# Altium footprint library MT_Chip.PcbLib: 38 footprints (part 3 of 3)
Each footprint in its own frame and in the unit in brackets; x right, y up, seen from the top. Pads: shape width x height; smd on the part's side, far side on the other; paste and mask are expansions set on the pad; w line width, h text height; cw(c..) or ccw(c..) is an arc to the next point about the centre after c.
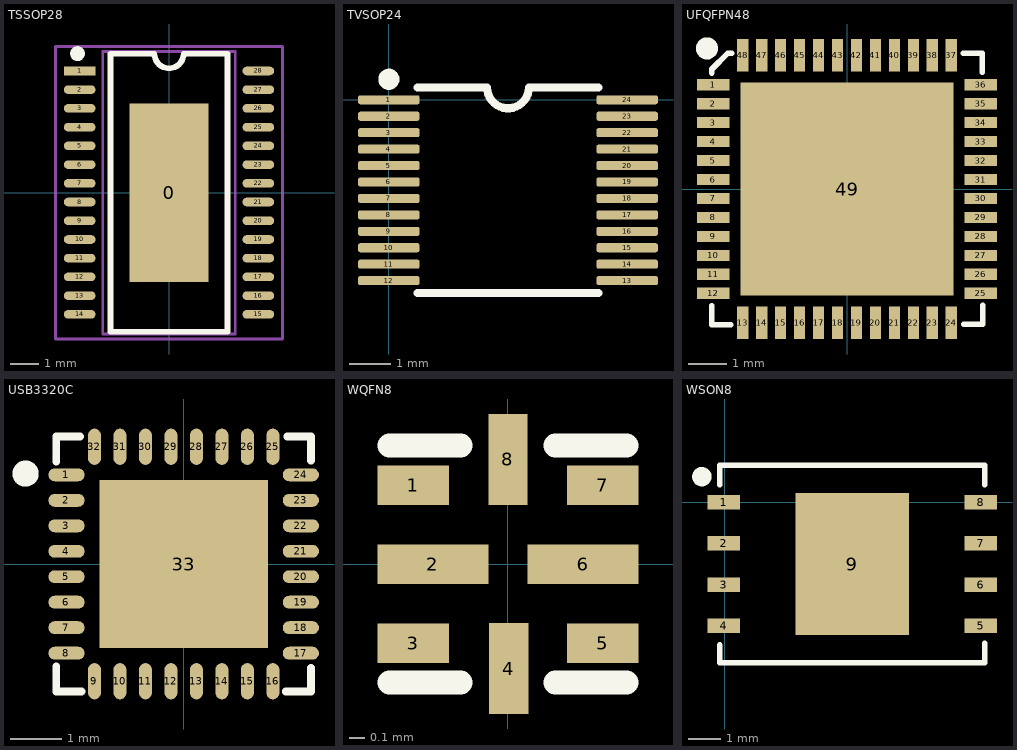
[diagram p2: the footprints below, top view; thin cyan lines are the x and y axes]

## TSSOP28 [mm]
pads (29):
  rect 2.75x6.2 smd: 0(0,0)
  rect 1.1x0.3 smd: 1(-3.1,4.225)
  oval 1.1x0.3 smd: 2(-3.1,3.575) 3(-3.1,2.925) 4(-3.1,2.275) 5(-3.1,1.625) 6(-3.1,0.975) 7(-3.1,0.325) 8(-3.1,-0.325) 9(-3.1,-0.975) 10(-3.1,-1.625) 11(-3.1,-2.275) 12(-3.1,-2.925) 13(-3.1,-3.575) 14(-3.1,-4.225) 15(3.1,-4.225) 16(3.1,-3.575) 17(3.1,-2.925) 18(3.1,-2.275) 19(3.1,-1.625) 20(3.1,-0.975) 21(3.1,-0.325) 22(3.1,0.325) 23(3.1,0.975) 24(3.1,1.625) 25(3.1,2.275) 26(3.1,2.925) 27(3.1,3.575) 28(3.1,4.225)
Top Overlay:
  circle w0.254: c-3.175,4.826 r0.13
  lines w0.2: -2.032,-4.826 -2.032,4.826 -0.508,4.826 ccw(c0,4.826) 0.508,4.826 2.032,4.826 2.032,-4.826 -2.032,-4.826
Mechanical 13:
  lines w0.1: -2.3,-4.9 2.3,-4.9 2.3,4.9 -2.3,4.9 -2.3,-4.9
Mechanical 15:
  circle w0.05: c0,0 r0.35
  lines w0.05: -0.5,0 0.5,0 ; 0,-0.5 0,0.5
  lines w0.1: -3.937,-5.08 3.937,-5.08 3.937,5.08 -3.937,5.08 -3.937,-5.08
3D body "TSSOP28.STEP": height 1.03, standoff -0.02, extent -3.202,-4.9 3.202,4.9

## TVSOP24 [mm]
pads (24):
  rrect50% 1.5x0.22 smd: 1(0,0) 2(0,-0.4) 3(0,-0.8) 4(0,-1.2) 5(0,-1.6) 6(0,-2) 7(0,-2.4) 8(0,-2.8) 9(0,-3.2) 10(0,-3.6) 11(0,-4) 12(0,-4.4) 13(5.8,-4.4) 14(5.8,-4) 15(5.8,-3.6) 16(5.8,-3.2) 17(5.8,-2.8) 18(5.8,-2.4) 19(5.8,-2) 20(5.8,-1.6) 21(5.8,-1.2) 22(5.8,-0.8) 23(5.8,-0.4) 24(5.8,0)
Top Overlay:
  circle w0.254: c0,0.5 r0.13
  lines w0.2: 0.7,-4.7 2.9,-4.7 5.1,-4.7 ; 0.7,0.3 2.375,0.3 ; 2.392,0.301 ccw(c2.9,0.301) 3.408,0.301 ; 3.425,0.3 5.1,0.3
3D body: height 1.2, standoff 0.03, extent 0.7,-4.7 5.1,0.3

## UFQFPN48 [mm]
pads (49):
  rect 0.85x0.3 smd: 1(-3.525,2.75) 2(-3.525,2.25) 3(-3.525,1.75) 4(-3.525,1.25) 5(-3.525,0.75) 6(-3.525,0.25) 7(-3.525,-0.25) 8(-3.525,-0.75) 9(-3.525,-1.25) 10(-3.525,-1.75) 11(-3.525,-2.25) 12(-3.525,-2.75) 25(3.525,-2.75) 26(3.525,-2.25) 27(3.525,-1.75) 28(3.525,-1.25) 29(3.525,-0.75) 30(3.525,-0.25) 31(3.525,0.25) 32(3.525,0.75) 33(3.525,1.25) 34(3.525,1.75) 35(3.525,2.25) 36(3.525,2.75)
  rect 0.3x0.85 smd: 13(-2.75,-3.525) 14(-2.25,-3.525) 15(-1.75,-3.525) 16(-1.25,-3.525) 17(-0.75,-3.525) 18(-0.25,-3.525) 19(0.25,-3.525) 20(0.75,-3.525) 21(1.25,-3.525) 22(1.75,-3.525) 23(2.25,-3.525) 24(2.75,-3.525) 37(2.75,3.525) 38(2.25,3.525) 39(1.75,3.525) 40(1.25,3.525) 41(0.75,3.525) 42(0.25,3.525) 43(-0.25,3.525) 44(-0.75,3.525) 45(-1.25,3.525) 46(-1.75,3.525) 47(-2.25,3.525) 48(-2.75,3.525)
  rect 5.6x5.6 smd: 49(0,0)
Top Overlay:
  circle w0.3: c-3.687,3.703 r0.14
  lines w0.15: -3.562,-3.072 -3.562,-3.572 -3.062,-3.572 ; -3.562,3.053 -3.562,3.153 -3.137,3.578 -3.037,3.578 ; 3.062,3.572 3.562,3.572 3.562,3.072 ; 3.072,-3.562 3.572,-3.562 3.572,-3.062
3D body: height 0.55, standoff 0, extent -3.575,-3.575 3.575,3.575

## USB3320C [mil]
pads (33):
  oval 28x10 smd: 1(-90.55,68.9) 2(-90.55,49.21) 3(-90.55,29.53) 4(-90.55,9.84) 5(-90.55,-9.84) 6(-90.55,-29.53) 7(-90.55,-49.21) 8(-90.55,-68.9) 17(90.55,-68.9) 18(90.55,-49.21) 19(90.55,-29.53) 20(90.55,-9.84) 21(90.55,9.84) 22(90.55,29.53) 23(90.55,49.21) 24(90.55,68.9)
  oval 10x28 smd: 9(-68.9,-90.55) 10(-49.21,-90.55) 11(-29.53,-90.55) 12(-9.84,-90.55) 13(9.84,-90.55) 14(29.53,-90.55) 15(49.21,-90.55) 16(68.9,-90.55) 25(68.9,90.55) 26(49.21,90.55) 27(29.53,90.55) 28(9.84,90.55) 29(-9.84,90.55) 30(-29.53,90.55) 31(-49.21,90.55) 32(-68.9,90.55)
  rect 129.93x129.93 smd: 33(0,0)
Top Overlay:
  circle w10: c-122.13,69.85 r5.1
  lines w6: -98.43,-79.29 -98.43,-98.43 -78.93,-98.43 ; -98.43,79.2 -98.43,98.43 -80.03,98.43 ; 78.83,-98.43 98.43,-98.43 98.43,-80.39 ; 79.93,98.43 98.43,98.43 98.43,79.94

## WQFN8 [mm]
pads (8):
  rect 0.45x0.25 smd: 1(-0.6,0.5) 3(-0.6,-0.5) 5(0.6,-0.5) 7(0.6,0.5)
  rect 0.7x0.25 smd: 2(-0.475,0) 6(0.475,0)
  rect 0.25x0.575 smd: 4(0.004,-0.662) 8(0,0.663)
Top Overlay:
  lines w0.15: -0.75,-0.75 -0.3,-0.75 ; -0.75,0.75 -0.3,0.75 ; 0.3,-0.75 0.75,-0.75 ; 0.3,0.75 0.75,0.75
3D body: height 0.8, standoff 0, extent -0.75,-0.75 0.75,0.75

## WSON8 [mm]
pads (9):
  rect 1x0.45 smd: 1(-0.038,0) 2(-0.038,-1.27) 3(-0.038,-2.54) 4(-0.038,-3.81) 5(7.912,-3.81) 6(7.912,-2.54) 7(7.912,-1.27) 8(7.912,0)
  rect 3.5x4.4 smd: 9(3.937,-1.905)
Top Overlay:
  circle w0.3: c-0.713,0.795 r0.15
  lines w0.178: -0.163,-4.409 -0.163,-4.955 8.037,-4.955 8.037,-4.354 ; -0.163,0.544 -0.163,1.145 8.037,1.145 ; 8.037,0.544 8.037,1.143
Mechanical 15:
  lines w0.1: 3.437,-1.905 4.437,-1.905 ; 3.937,-2.405 3.937,-1.405